# EAGLE library part TS3A44159PWR (library AnalogSwitches)
QUAD-CHANNEL 2:1 MULTIPLEXER/DEMULTIPLEXER
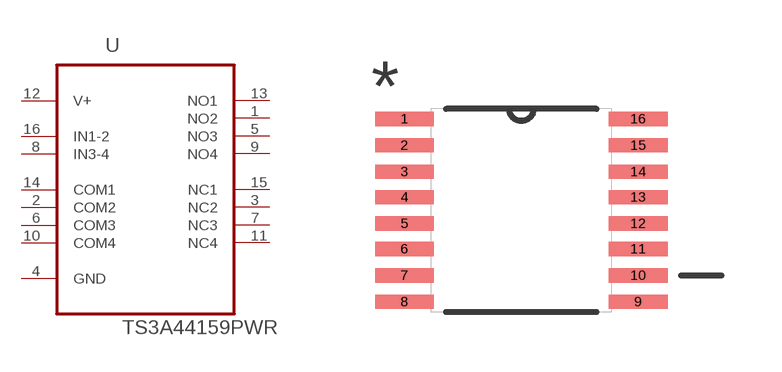
[diagram p0: symbol with the pads of SOP65P640X120-16N; footprint SOP65P640X120-16N]

Designator prefix U

## TS3A44159PWR (MPN: TS3A44159PWR; OC_FARNELL: 1755573; OC_NEWARK: 31M0463; PACKAGE: TSSOP-16; SUPPLIER: TEXAS INSTRUMENTS)  [SOP65P640X120-16N]
1  NO2  pas
2  COM2  pas
3  NC2  pas
4  GND  pas
5  NO3  pas
6  COM3  pas
7  NC3  pas
8  IN3-4  in
9  NO4  pas
10  COM4  pas
11  NC4  pas
12  V+  pwr
13  NO1  pas
14  COM1  pas
15  NC1  pas
16  IN1-2  in

## Footprint SOP65P640X120-16N (pad centres in mm)
smd 1.473 x 0.356: 1 -2.921,2.286; 2 -2.921,1.626; 3 -2.921,0.965; 4 -2.921,0.33; 5 -2.921,-0.33; 6 -2.921,-0.965; 7 -2.921,-1.626; 8 -2.921,-2.286; 9 2.921,-2.286; 10 2.921,-1.626; 11 2.921,-0.965; 12 2.921,-0.33; 13 2.921,0.33; 14 2.921,0.965; 15 2.921,1.626; 16 2.921,2.286